# Altium footprint library Mechanical.PcbLib: 18 footprints (part 2 of 2)
Each footprint in its own frame and in the unit in brackets; x right, y up, seen from the top. Pads: shape width x height; smd on the part's side, far side on the other; paste and mask are expansions set on the pad; w line width, h text height; cw(c..) or ccw(c..) is an arc to the next point about the centre after c.
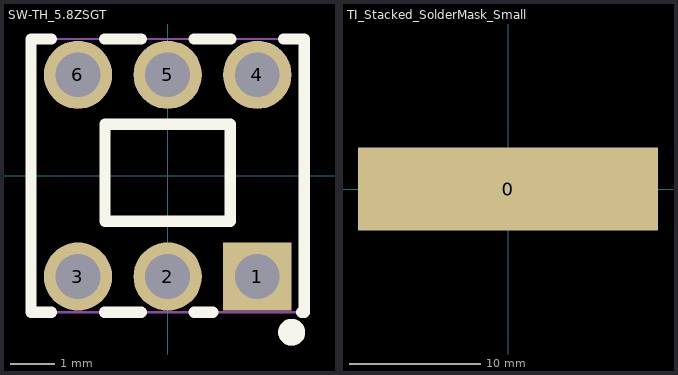
[diagram p1: the footprints below, top view; thin cyan lines are the x and y axes]

## SW-TH_5.8ZSGT [mil]
pads (6):
  rect 60x60 hole 39.37: 1(78.74,-88.59)
  round 60 hole 39.37: 2(0,-88.59) 3(-78.74,-88.59) 4(78.74,88.59) 5(0,88.59) 6(-78.74,88.59)
Top Overlay:
  circle w11.81: c108.9,-137.52 r5.91
  lines w10: -102,-119.96 -120,-119.96 -120,119.96 -102.01,119.96 ; -55.48,-119.96 -23.26,-119.96 ; -55.47,119.96 -23.27,119.96 ; 23.26,-119.96 39.75,-119.96 ; 23.27,119.96 55.47,119.96 ; 102.01,119.96 120,119.96 ; 117.73,-119.96 120,-119.96 120,120 ; -55,-40 55,-40 55,45 -55,45 -55,-40
Mechanical 6:
  circle w11.81: c108.9,-137.52 r5.91
Mechanical 15:
  region: 122.36,-120 122.34,-119.04 120.96,-117.69 119.04,-117.69 117.66,-119.04 117.64,-120.01 117.64,-120 117.66,-120.97 119.04,-122.32 120.96,-122.32 122.34,-120.97 122.36,-120
  region: 94.48,88.59 94.43,91.68 91.99,97.38 87.58,101.73 81.84,104.08 75.64,104.08 69.91,101.73 65.49,97.38 63.05,91.68 63,88.58 63.05,85.49 65.49,79.79 69.91,75.44 75.64,73.09 81.84,73.09 87.58,75.44 91.99,79.79 94.43,85.49 94.48,88.59
  region: 15.74,88.59 15.69,91.68 13.25,97.38 8.84,101.73 3.1,104.08 -3.1,104.08 -8.83,101.73 -13.25,97.38 -15.69,91.68 -15.74,88.58 -15.69,85.49 -13.25,79.79 -8.83,75.44 -3.1,73.09 3.1,73.09 8.84,75.44 13.25,79.79 15.69,85.49 15.74,88.59
  region: -63,88.59 -63.05,91.68 -65.49,97.38 -69.9,101.73 -75.64,104.08 -81.84,104.08 -87.57,101.73 -91.99,97.38 -94.43,91.68 -94.48,88.58 -94.43,85.49 -91.99,79.79 -87.57,75.44 -81.84,73.09 -75.64,73.09 -69.9,75.44 -65.49,79.79 -63.05,85.49 -63,88.59
  region: -63,-88.58 -63.05,-85.49 -65.49,-79.79 -69.9,-75.44 -75.64,-73.09 -81.84,-73.09 -87.57,-75.44 -91.99,-79.79 -94.43,-85.49 -94.48,-88.58 -94.43,-91.68 -91.99,-97.38 -87.57,-101.73 -81.84,-104.08 -75.64,-104.08 -69.9,-101.73 -65.49,-97.38 -63.05,-91.68 -63,-88.58
  region: 15.74,-88.58 15.69,-85.49 13.25,-79.79 8.84,-75.44 3.1,-73.09 -3.1,-73.09 -8.83,-75.44 -13.25,-79.79 -15.69,-85.49 -15.74,-88.58 -15.69,-91.68 -13.25,-97.38 -8.83,-101.73 -3.1,-104.08 3.1,-104.08 8.84,-101.73 13.25,-97.38 15.69,-91.68 15.74,-88.58
  region: 94.48,-88.58 94.43,-85.49 91.99,-79.79 87.58,-75.44 81.84,-73.09 75.64,-73.09 69.91,-75.44 65.49,-79.79 63.05,-85.49 63,-88.58 63.05,-91.68 65.49,-97.38 69.91,-101.73 75.64,-104.08 81.84,-104.08 87.58,-101.73 91.99,-97.38 94.43,-91.68 94.48,-88.58
  lines w2: -120,-120 120,-120 120,120 -120,120 -120,-120
3D body "C2681587_SW-TH_5.8ZSGT.step": height 393.7, standoff -141.73, extent -114.17,-114.17 114.18,114.18

## TI_Stacked_SolderMask_Small [mm]
pads (1):
  rect 22.86x6.35 smd paste-3.175 mask-3.175: 0(0,0)
Top Solder:
  drawing of 18 lines, arcs and shapes, not listed